# EAGLE library part FST3257 (library ELL-i-DigitalIC)
Quad 2:1 Multiplexer / Demultiplexer Bus Switch
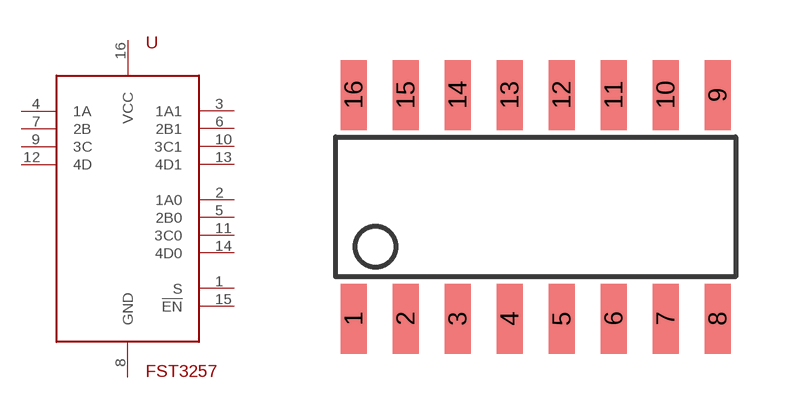
[diagram p10: symbol with the pads of SOIC-16-NARROW; footprint SOIC-16-NARROW]

Designator prefix U

## FST3257  [SOIC-16-NARROW]
1  S  in
2  1A0
3  1A1
4  1A
5  2B0
6  2B1
7  2B
8  GND  pwr
9  3C
10  3C1
11  3C0
12  4D
13  4D1
14  4D0
15  !EN  in
16  VCC  pwr

## Footprint SOIC-16-NARROW (pad centres in mm)
SOIC-16 package, narrow 10 mm long, 6 mm wide. 150 mil (1.27 mm) pin spacing, 0.65 mm pad width, 1.75 mm pad length. JEDEC MS-012 Not reviewed Possible step model <http://grabcad.com/library/soic-package-narrow-8-10-14-and-16-pins-1>
smd 0.65 x 1.75: 1 -4.55,-2.8; 2 -3.25,-2.8; 3 -1.95,-2.8; 4 -0.65,-2.8; 5 0.65,-2.8; 6 1.95,-2.8; 7 3.25,-2.8; 8 4.55,-2.8; 9 4.55,2.8; 10 3.25,2.8; 11 1.95,2.8; 12 0.65,2.8; 13 -0.65,2.8; 14 -1.95,2.8; 15 -3.25,2.8; 16 -4.55,2.8